# Altium footprint library Imperial_SMD.PcbLib: 79 footprints (part 5 of 5)
Each footprint in its own frame and in the unit in brackets; x right, y up, seen from the top. Pads: shape width x height; smd on the part's side, far side on the other; paste and mask are expansions set on the pad; w line width, h text height; cw(c..) or ccw(c..) is an arc to the next point about the centre after c.
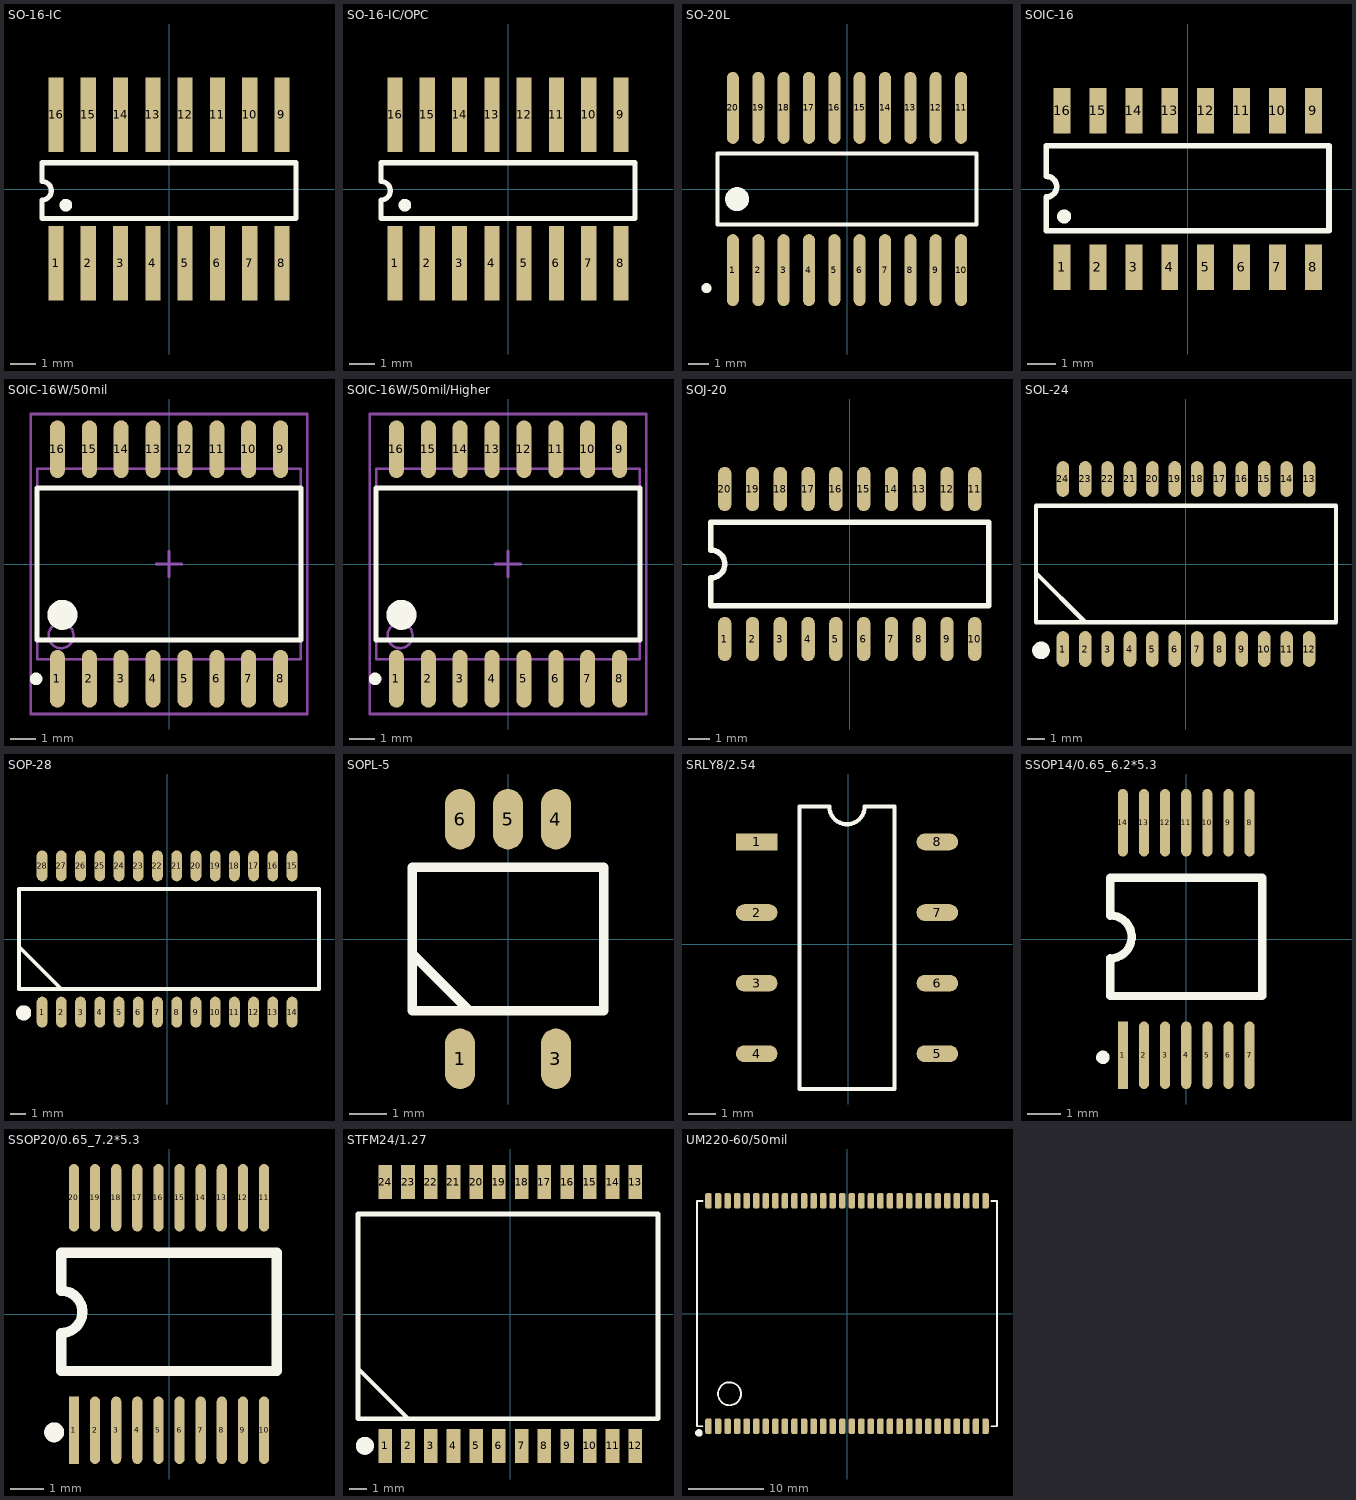
[diagram p4: the footprints below, top view; thin cyan lines are the x and y axes]

## SO-16-IC [mil] "兼容SO-16与SOIC-16封装"
height 78.74
pads (16):
  rect 23.62x115 smd: 1(-175,-115) 2(-125,-115) 3(-75,-115) 4(-25,-115) 5(25,-115) 6(75,-115) 7(125,-115) 8(175,-115) 9(175,115) 10(125,115) 11(75,115) 12(25,115) 13(-25,115) 14(-75,115) 15(-125,115) 16(-175,115)
Top Overlay:
  circle w9.84: c-159.92,-25 r4.92
  lines w7.87: -196.85,-45.95 196.85,-45.95 196.85,40.67 -196.85,40.67 -196.85,11.8 cw(c-196.85,-2.64) -196.85,-17.07 -196.85,-45.95
3D body: height 78.74, standoff 23.62, extent -194.37,-105 205,108.23

## SO-16-IC/OPC [mil] "兼容SO-16与SOIC-16封装,4联光耦"
height 78.74
pads (16):
  rect 23.62x115 smd: 1(-175,-115) 2(-125,-115) 3(-75,-115) 4(-25,-115) 5(25,-115) 6(75,-115) 7(125,-115) 8(175,-115) 9(175,115) 10(125,115) 11(75,115) 12(25,115) 13(-25,115) 14(-75,115) 15(-125,115) 16(-175,115)
Top Overlay:
  circle w9.84: c-159.92,-25 r4.92
  lines w7.87: -196.85,-45.95 -196.85,-17.07 ccw(c-196.85,-2.64) -196.85,11.8 -196.85,40.67 196.85,40.67 196.85,-45.95 -196.85,-45.95
3D body: height 78.74, standoff 23.62, extent -194.37,-105 191,108.23
3D body: height 78.8, standoff 77, extent -147.69,28 -4.32,61.23
3D body: height 78.8, standoff 0, extent -169.84,-88.96 -130,-49.04

## SO-20L [mm] "SOIC, 20-Leads, Body 12.8x7.5mm, Pitch 1.27mm, IPC Medium Density.--兼容SOL20"
height 2.65
pads (20):
  oval 0.6x3.6 smd: 1(-5.715,-4.064) 2(-4.445,-4.064) 3(-3.175,-4.064) 4(-1.905,-4.064) 5(-0.635,-4.064) 6(0.635,-4.064) 7(1.905,-4.064) 8(3.175,-4.064) 9(4.445,-4.064) 10(5.715,-4.064) 11(5.715,4.064) 12(4.445,4.064) 13(3.175,4.064) 14(1.905,4.064) 15(0.635,4.064) 16(-0.635,4.064) 17(-1.905,4.064) 18(-3.175,4.064) 19(-4.445,4.064) 20(-5.715,4.064)
Top Overlay:
  circle w0.6: c-5.507,-0.508 r0.3
  circle w0.25: c-7.04,-4.964 r0.125
  lines w0.2: -6.5,-1.778 -6.5,1.778 6.5,1.778 6.5,-1.778 -6.5,-1.778
3D body: height 2, standoff 0.6, extent -6.715,-3.556 7.239,3.638

## SOIC-16 [mm] "SOIC-16封装only，pitch=50mil"
height 2
pads (16):
  rect 0.6x1.6 smd: 1(-4.445,-2.771) 2(-3.175,-2.771) 3(-1.905,-2.771) 4(-0.635,-2.771) 5(0.635,-2.771) 6(1.905,-2.771) 7(3.175,-2.771) 8(4.445,-2.771) 9(4.445,2.771) 10(3.175,2.771) 11(1.905,2.771) 12(0.635,2.771) 13(-0.635,2.771) 14(-1.905,2.771) 15(-3.175,2.771) 16(-4.445,2.771)
Top Overlay:
  circle w0.25: c-4.37,-0.971 r0.125
  lines w0.2: -5,-1.471 5,-1.471 5,1.529 -5,1.529 -5,0.45 cw(c-5,0.083) -5,-0.284 -5,-1.471
3D body: height 1.2, standoff 0.1, extent -5.045,-2.171 4.955,2.229

## SOIC-16W/50mil [mm] "SOIC 16-Leads,Pitch=50mil/1.27mm"
height 2.65
pads (16):
  oval 0.6x2.3 smd: 1(-4.445,-4.575) 2(-3.175,-4.575) 3(-1.905,-4.575) 4(-0.635,-4.575) 5(0.635,-4.575) 6(1.905,-4.575) 7(3.175,-4.575) 8(4.445,-4.575) 9(4.445,4.575) 10(3.175,4.575) 11(1.905,4.575) 12(0.635,4.575) 13(-0.635,4.575) 14(-1.905,4.575) 15(-3.175,4.575) 16(-4.445,4.575)
Top Overlay:
  circle w0.25: c-5.295,-4.575 r0.125
  circle w0.6: c-4.25,-2.025 r0.3
  lines w0.2: -5.25,-3.025 5.25,-3.025 5.25,3.025 -5.25,3.025 -5.25,-3.025
Mechanical 13:
  circle w0.1: c-4.3,-2.85 r0.5
  lines w0.1: -5.25,-3.8 5.25,-3.8 5.25,3.8 -5.25,3.8 -5.25,-3.8
Mechanical 15:
  lines w0.1: -0.5,0 0.5,0 ; 0,-0.5 0,0.5 ; -5.5,-5.975 5.5,-5.975 5.5,5.975 -5.5,5.975 -5.5,-5.975
3D body: height 2.65, standoff 0.03, extent -5.25,-3.8 5.25,3.8

## SOIC-16W/50mil/Higher [mm] "SOIC 16-Leads,Pitch=50mil/1.27mm"
height 2.65
pads (16):
  oval 0.6x2.3 smd: 1(-4.445,-4.575) 2(-3.175,-4.575) 3(-1.905,-4.575) 4(-0.635,-4.575) 5(0.635,-4.575) 6(1.905,-4.575) 7(3.175,-4.575) 8(4.445,-4.575) 9(4.445,4.575) 10(3.175,4.575) 11(1.905,4.575) 12(0.635,4.575) 13(-0.635,4.575) 14(-1.905,4.575) 15(-3.175,4.575) 16(-4.445,4.575)
Top Overlay:
  circle w0.6: c-4.25,-2.025 r0.3
  circle w0.25: c-5.295,-4.575 r0.125
  lines w0.2: -5.25,-3.025 -5.25,3.025 5.25,3.025 5.25,-3.025 -5.25,-3.025
Mechanical 13:
  circle w0.1: c-4.3,-2.85 r0.5
  lines w0.1: -5.25,-3.8 -5.25,3.8 5.25,3.8 5.25,-3.8 -5.25,-3.8
Mechanical 15:
  lines w0.1: -0.5,0 0.5,0 ; 0,-0.5 0,0.5 ; -5.5,-5.975 -5.5,5.975 5.5,5.975 5.5,-5.975 -5.5,-5.975
3D body: height 5.84, standoff 0.03, extent -5.25,-3.8 5.25,3.8

## SOJ-20 [mil] "SO-20"
height 78.74
pads (20):
  oval 24x80 smd: 1(-225,-135) 2(-175,-135) 3(-125,-135) 4(-75,-135) 5(-25,-135) 6(25,-135) 7(75,-135) 8(125,-135) 9(175,-135) 10(225,-135) 11(225,135) 12(175,135) 13(125,135) 14(75,135) 15(25,135) 16(-25,135) 17(-75,135) 18(-125,135) 19(-175,135) 20(-225,135)
Top Overlay:
  lines w10: -250,-75 -250,-25 ccw(c-250,0) -250,25 -250,75 250,75 250,-75 -250,-75
3D body: height 78.74, standoff 23.62, extent -264.37,-125 265,128.23

## SOL-24 [mil] "50mil 间距"
height 118.11
pads (24):
  oval 28x80 smd: 1(-275,-190) 2(-225,-190) 3(-175,-190) 4(-125,-190) 5(-75,-190) 6(-25,-190) 7(25,-190) 8(75,-190) 9(125,-190) 10(175,-190) 11(225,-190) 12(275,-190) 13(275,190) 14(225,190) 15(175,190) 16(125,190) 17(75,190) 18(25,190) 19(-25,190) 20(-75,190) 21(-125,190) 22(-175,190) 23(-225,190) 24(-275,190)
Top Overlay:
  circle w19.68: c-323.84,-193 r9.84
  lines w10: -335,-10 -335,-20 -225,-130 ; -335,-130 335.24,-130 335.24,130 -335,130 -335,-130
3D body: height 78.74, standoff 23.62, extent -344.37,-170 345,173.23

## SOP-28 [mil] "50mil 间距"
height 118.11
pads (28):
  oval 28x80 smd: 1(-325,-190) 2(-275,-190) 3(-225,-190) 4(-175,-190) 5(-125,-190) 6(-75,-190) 7(-25,-190) 8(25,-190) 9(75,-190) 10(125,-190) 11(175,-190) 12(225,-190) 13(275,-190) 14(325,-190) 15(325,190) 16(275,190) 17(225,190) 18(175,190) 19(125,190) 20(75,190) 21(25,190) 22(-25,190) 23(-75,190) 24(-125,190) 25(-175,190) 26(-225,190) 27(-275,190) 28(-325,190)
Top Overlay:
  circle w19.68: c-372.84,-192 r9.84
  lines w10: -385,-10 -385,-20 -275,-130 ; -385,-130 -385,130 395,130 395,-130 -385,-130
3D body: height 78.74, standoff 23.62, extent -394.37,-170 395,173.23

## SOPL-5 [mm]
height 0.089
pads (5):
  oval 0.8x1.6 smd: 1(-1.27,-3.175) 3(1.27,-3.175) 4(1.27,3.175) 5(0,3.175) 6(-1.27,3.175)
Top Overlay:
  lines w0.254: -2.54,-0.381 -1.016,-1.905 ; -2.54,-1.905 2.54,-1.905 2.54,1.905 -2.286,1.905 -2.54,1.905 -2.54,-1.905
3D body: height 2, standoff 0.6, extent -2.524,-2.667 2.54,2.749

## SRLY8/2.54 [mm] "光继电器"
pads (8):
  rect 1.5x0.6 smd: 1(-3.302,3.683)
  oval 1.5x0.6 smd: 2(-3.302,1.143) 3(-3.302,-1.397) 4(-3.302,-3.937) 5(3.198,-3.937) 6(3.198,-1.397) 7(3.198,1.143) 8(3.198,3.683)
Top Overlay:
  lines w0.15: -1.767,-5.207 1.663,-5.207 1.663,4.953 0.583,4.953 cw(c-0.052,4.953) -0.687,4.953 -1.767,4.953 -1.767,-5.207

## SSOP14/0.65_6.2*5.3 [mil] "25mil间距"
height 78.74
pads (14):
  rect 12x80 smd: 1(-75,-137.5)
  oval 12x80 smd: 2(-50,-137.5) 3(-25,-137.5) 4(0,-137.5) 5(25,-137.5) 6(50,-137.5) 7(75,-137.5) 8(75,137.5) 9(50,137.5) 10(25,137.5) 11(0,137.5) 12(-25,137.5) 13(-50,137.5) 14(-75,137.5)
Top Overlay:
  circle w8: c-98.61,-140 r4
  lines w9.84: -90,-23 ccw(c-90,2.5) -90,28 ; -90,-22.5 -90,-67.5 90,-67.5 90,72.5 -90,72.5 -90,27.5
3D body "User Library-SSOP14-P065.STEP": height 68.22, standoff -3.3, extent -98,-114 98.85,122.22

## SSOP20/0.65_7.2*5.3 [mil] "SSOP,Body Wide 5.3mm,25mil间距"
height 78.74
pads (20):
  rect 12x80 smd: 1(-112.5,-137.5)
  oval 12x80 smd: 2(-87.5,-137.5) 3(-62.5,-137.5) 4(-37.5,-137.5) 5(-12.5,-137.5) 6(12.5,-137.5) 7(37.5,-137.5) 8(62.5,-137.5) 9(87.5,-137.5) 10(112.5,-137.5) 11(112.5,137.5) 12(87.5,137.5) 13(62.5,137.5) 14(37.5,137.5) 15(12.5,137.5) 16(-12.5,137.5) 17(-37.5,137.5) 18(-62.5,137.5) 19(-87.5,137.5) 20(-112.5,137.5)
Top Overlay:
  circle w11.81: c-135.91,-140 r5.91
  lines w12: -127.5,-67.5 127.5,-67.5 127.5,72.5 -127.5,72.5 -127.5,27.5 cw(c-127.5,2.5) -127.5,-22.5 -127.5,-67.5
3D body: height 47.24, standoff 7.87, extent -128.25,-107.5 131.59,112.5

## STFM24/1.27 [mil] "50mil间距"
height 280
pads (24):
  rect 30x75 smd: 1(-275,-290) 2(-225,-290) 3(-175,-290) 4(-125,-290) 5(-75,-290) 6(-25,-290) 7(25,-290) 8(75,-290) 9(125,-290) 10(175,-290) 11(225,-290) 12(275,-290) 13(275,290) 14(225,290) 15(175,290) 16(125,290) 17(75,290) 18(25,290) 19(-25,290) 20(-75,290) 21(-125,290) 22(-175,290) 23(-225,290) 24(-275,290)
Top Overlay:
  circle w19.68: c-319.84,-290 r9.84
  lines w10: -335,-120 -225,-230 ; -335,-230 -335,220 325,220 325,-230 -335,-230
3D body: height 275.98, standoff 5, extent -100.62,51 198.62,115
3D body: height 275.98, standoff 5, extent -239.25,48 -150,114
3D body: height 275, standoff 4.02, extent -335.01,-257.88 322.47,261.8

## UM220-60/50mil [mil] "UM220北斗模块PCB"
height 2
pads (60):
  rrect50% 34x80 smd: 1(-725,-590) 2(-675,-590) 3(-625,-590) 4(-575,-590) 5(-525,-590) 6(-475,-590) 7(-425,-590) 8(-375,-590) 9(-325,-590) 10(-275,-590) 11(-225,-590) 12(-175,-590) 13(-125,-590) 14(-75,-590) 15(-25,-590) 16(25,-590) 17(75,-590) 18(125,-590) 19(175,-590) 20(225,-590) 21(275,-590) 22(325,-590) 23(375,-590) 24(425,-590) 25(475,-590) 26(525,-590) 27(575,-590) 28(625,-590) 29(675,-590) 30(725,-590) 31(725,590) 32(675,590) 33(625,590) 34(575,590) 35(525,590) 36(475,590) 37(425,590) 38(375,590) 39(325,590) 40(275,590) 41(225,590) 42(175,590) 43(125,590) 44(75,590) 45(25,590) 46(-25,590) 47(-75,590) 48(-125,590) 49(-175,590) 50(-225,590) 51(-275,590) 52(-325,590) 53(-375,590) 54(-425,590) 55(-475,590) 56(-525,590) 57(-575,590) 58(-625,590) 59(-675,590) 60(-725,590)
Top Overlay:
  circle w10: c-615,-420 r60
  circle w19.68: c-774.84,-625 r9.84
  lines w10: -755,-590 -785,-590 -785,590 -755,590 ; 755,-590 785,-590 785,590 755,590
3D body: height 40, standoff 0.4, extent -345.79,-244.41 385,298.9
3D body: height 39.37, standoff 0.39, extent -785.79,-580 775,588.9